# Altium footprint library EEG_PcbLib.PcbLib: 129 footprints (part 2 of 9)
Each footprint in its own frame and in the unit in brackets; x right, y up, seen from the top. Pads: shape width x height; smd on the part's side, far side on the other; paste and mask are expansions set on the pad; w line width, h text height; cw(c..) or ccw(c..) is an arc to the next point about the centre after c.
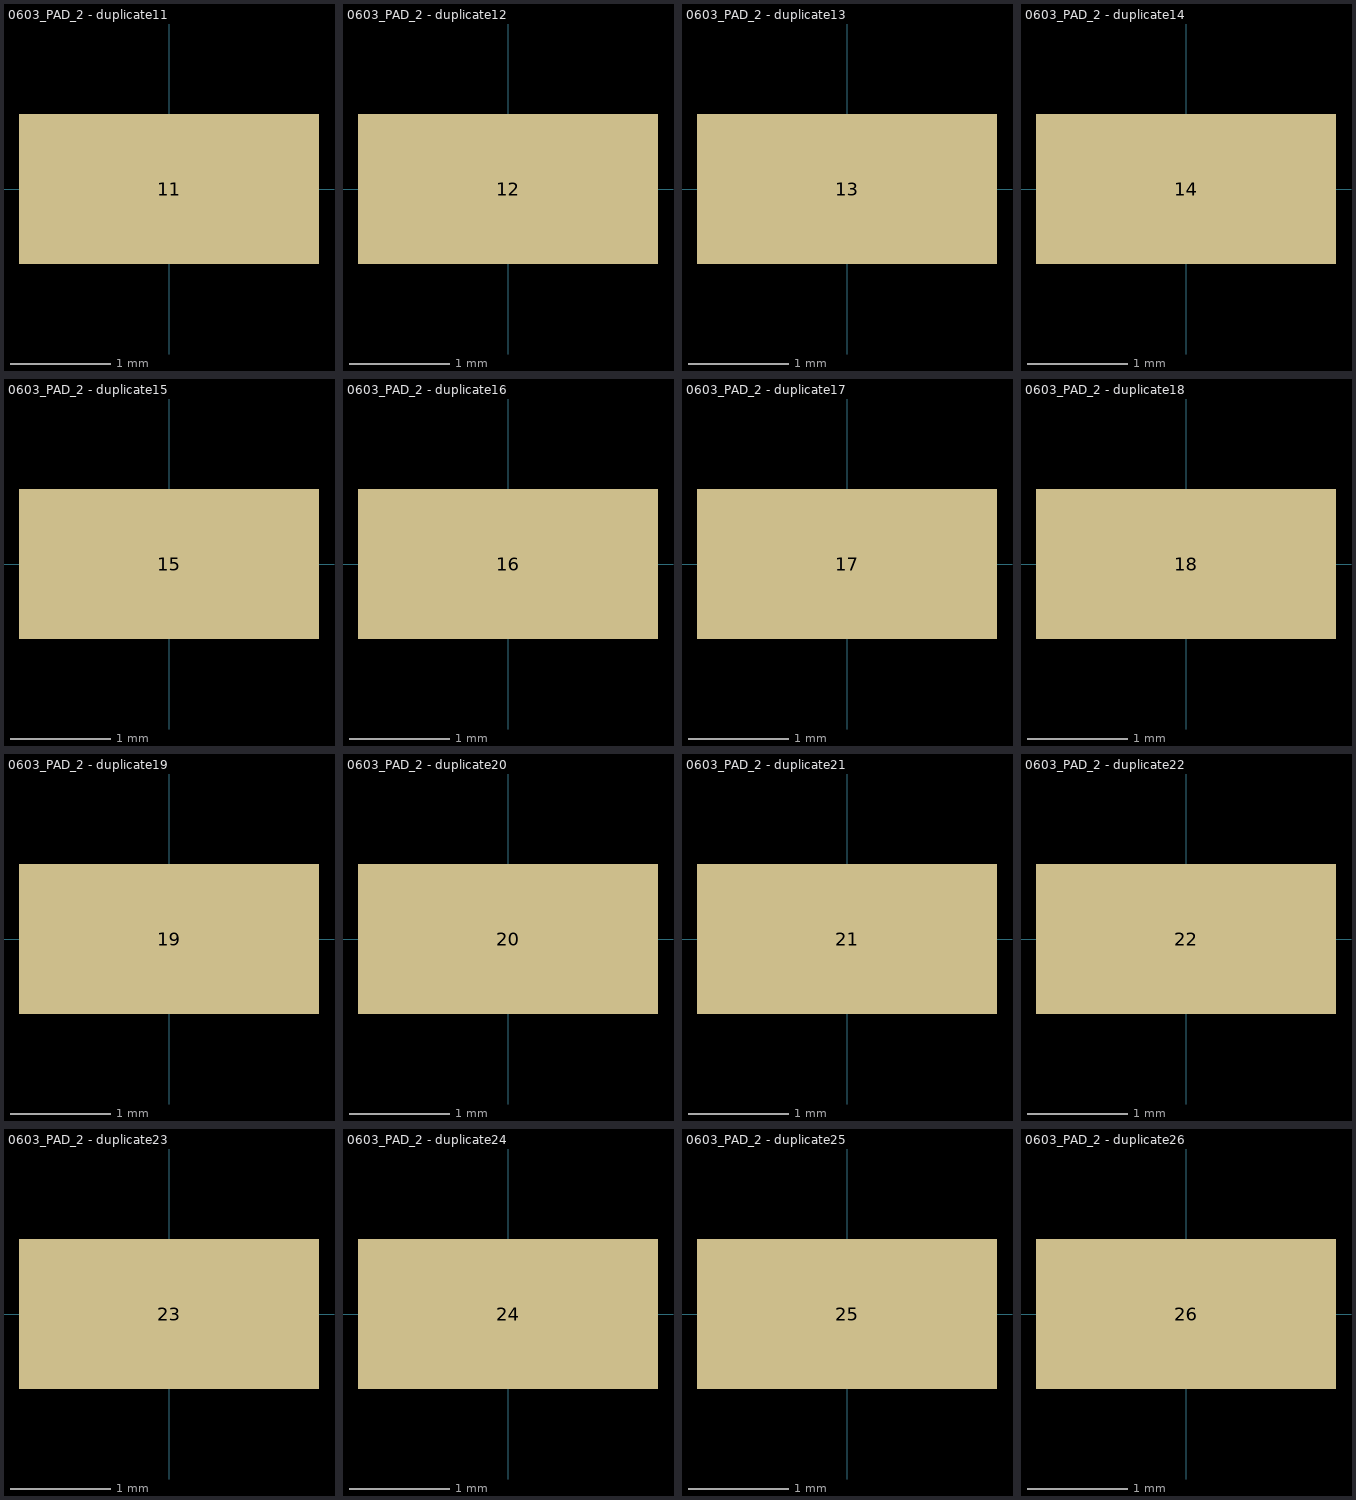
[diagram p1: the footprints below, top view; thin cyan lines are the x and y axes]

## 0603_PAD_2 - duplicate11 [mm]
pads (1):
  rect 3x1.5 smd: 11(0,0)

## 0603_PAD_2 - duplicate12 [mm]
pads (1):
  rect 3x1.5 smd: 12(0,0)

## 0603_PAD_2 - duplicate13 [mm]
pads (1):
  rect 3x1.5 smd: 13(0,0)

## 0603_PAD_2 - duplicate14 [mm]
pads (1):
  rect 3x1.5 smd: 14(0,0)

## 0603_PAD_2 - duplicate15 [mm]
pads (1):
  rect 3x1.5 smd: 15(0,0)

## 0603_PAD_2 - duplicate16 [mm]
pads (1):
  rect 3x1.5 smd: 16(0,0)

## 0603_PAD_2 - duplicate17 [mm]
pads (1):
  rect 3x1.5 smd: 17(0,0)

## 0603_PAD_2 - duplicate18 [mm]
pads (1):
  rect 3x1.5 smd: 18(0,0)

## 0603_PAD_2 - duplicate19 [mm]
pads (1):
  rect 3x1.5 smd: 19(0,0)

## 0603_PAD_2 - duplicate20 [mm]
pads (1):
  rect 3x1.5 smd: 20(0,0)

## 0603_PAD_2 - duplicate21 [mm]
pads (1):
  rect 3x1.5 smd: 21(0,0)

## 0603_PAD_2 - duplicate22 [mm]
pads (1):
  rect 3x1.5 smd: 22(0,0)

## 0603_PAD_2 - duplicate23 [mm]
pads (1):
  rect 3x1.5 smd: 23(0,0)

## 0603_PAD_2 - duplicate24 [mm]
pads (1):
  rect 3x1.5 smd: 24(0,0)

## 0603_PAD_2 - duplicate25 [mm]
pads (1):
  rect 3x1.5 smd: 25(0,0)

## 0603_PAD_2 - duplicate26 [mm]
pads (1):
  rect 3x1.5 smd: 26(0,0)